# Altium footprint library TL2230EEF140.PcbLib: 2 footprints
Each footprint in its own frame and in the unit in brackets; x right, y up, seen from the top. Pads: shape width x height; smd on the part's side, far side on the other; paste and mask are expansions set on the pad; w line width, h text height; cw(c..) or ccw(c..) is an arc to the next point about the centre after c.
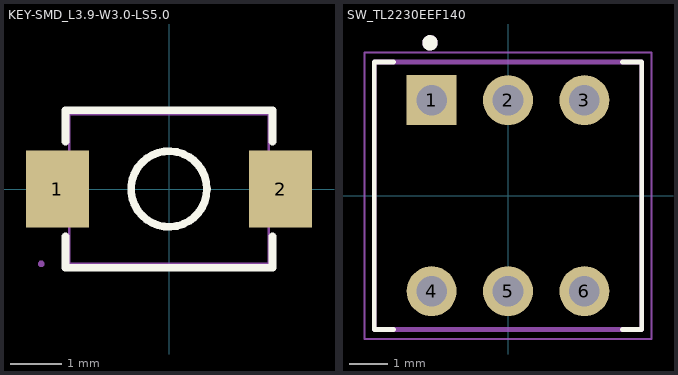
[diagram p0: the footprints below, top view; thin cyan lines are the x and y axes]

## KEY-SMD_L3.9-W3.0-LS5.0 [mm]
pads (2):
  rect 1.23x1.5 smd mask+0.102: 1(-2.185,0) 2(2.185,0)
Top Overlay:
  circle w0.152: c0,0 r0.741
  lines w0.152: -2.026,-0.93 -2.026,-1.541 2.026,-1.541 2.026,-0.93 ; -2.026,0.93 -2.026,1.541 2.026,1.541 2.026,0.93
Mechanical 15:
  region: 1.8,0.65 2.5,0.65 2.5,-0.65 1.8,-0.65
  region: -2.5,0.65 -1.8,0.65 -1.8,-0.65 -2.5,-0.65
  region: -2.44,-1.465 -2.44,-1.44 -2.475,-1.405 -2.525,-1.405 -2.56,-1.44 -2.56,-1.465 -2.56,-1.49 -2.525,-1.525 -2.475,-1.525 -2.44,-1.49 -2.44,-1.465
  lines w0.051: -1.95,-1.465 -1.95,1.465 1.95,1.465 1.95,-1.465 -1.95,-1.465
3D body "User Library-342button.SLDPRT": height 2.01, standoff 0.01, extent -2.5,-1.476 2.5,1.524

## SW_TL2230EEF140 [mm]
pads (6):
  rect 1.308x1.308 hole 0.8: 1(-2,2.5)
  round 1.308 hole 0.8: 2(0,2.5) 3(2,2.5) 4(-2,-2.5) 5(0,-2.5) 6(2,-2.5)
Top Overlay:
  circle w0.2: c-2.04,4 r0.1
  lines w0.127: -3,-3.5 -3.5,-3.5 -3.5,3.5 -3,3.5 ; 3,-3.5 3.5,-3.5 3.5,3.5 3,3.5
Mechanical 13:
  circle w0.2: c-2.04,4 r0.1
  lines w0.127: -3.5,-3.5 3.5,-3.5 3.5,3.5 -3.5,3.5 -3.5,-3.5
Mechanical 15:
  lines w0.05: -3.75,-3.75 3.75,-3.75 3.75,3.75 -3.75,3.75 -3.75,-3.75
3D body "step_temp.STEP": height 12.5, standoff -3.5, extent -3.5,-3.5 3.5,3.5